# EAGLE library part TJA1051 (library can)
IC CAN TRANSEIVER HS 8SOIC
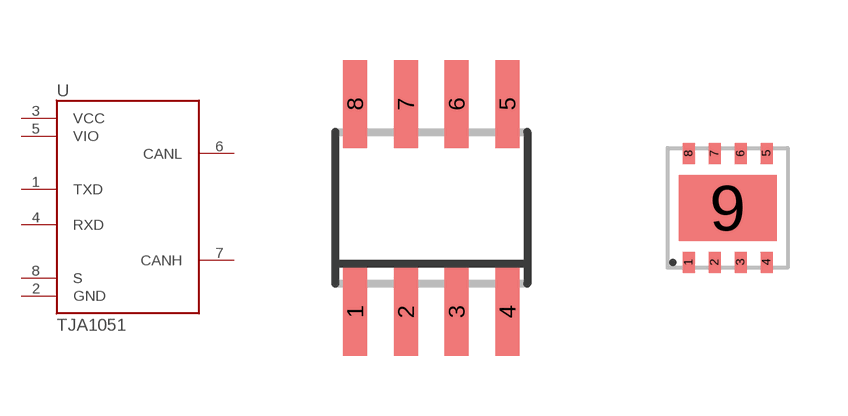
[diagram p0: symbol with the pads of SO8; footprints SO8, TSON-8]

Designator prefix U

## TJA1051T/3  [SO8]
1  TXD
2  GND
3  VCC  in
4  RXD  out
5  VIO
6  CANL
7  CANH
8  S  in

## TJA1051TK/3  [TSON-8]
1  TXD
2  GND
3  VCC  in
4  RXD  out
5  VIO
6  CANL
7  CANH
8  S  in
9  GND

## Footprint SO8 (pad centres in mm)
8-Lead Small Outline IC (SO-8) Source: http://www.analog.com/UploadedFiles/Data_Sheets/703465986AD8611_2_0.pdf
smd 0.6 x 2.2: 1 -1.905,-2.6; 2 -0.635,-2.6; 3 0.635,-2.6; 4 1.905,-2.6; 5 1.905,2.6; 6 0.635,2.6; 7 -0.635,2.6; 8 -1.905,2.6

## Footprint TSON-8 (pad centres in mm)
smd 0.3 x 0.525: 1 -0.975,-1.363; 2 -0.325,-1.363; 3 0.325,-1.363; 4 0.975,-1.363; 5 0.975,1.363; 6 0.325,1.363; 7 -0.325,1.363; 8 -0.975,1.363
smd 2.45 x 1.65: 9 0,0